# EAGLE library part HD44780 (library MF_Displays)
Library: MF_Displays Description: Device for HD44780 Complaint Displays. Manufacture part number (MFG#) can be added via Attributes.
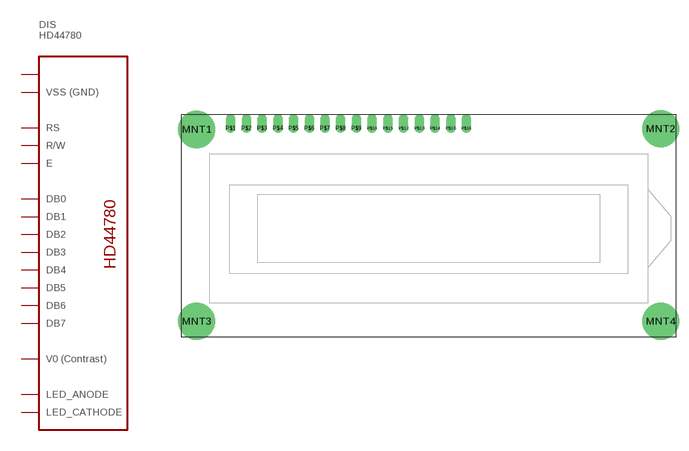
[diagram p0: symbol with the pads of 16026-16X2; footprint 16026-16X2]

Designator prefix DIS

## HD44780_16026_16X2_BYG_5V (HOUSEPART: NO; MPN: ERM1602-6; POPULATE: 0; URL: http://www.buydisplay.com/default/character-2x16-lcd-display-modules-hd44780-controller-black-on-yg; VALUE: ERM1602-6)  [16026-16X2]
P$1  VSS
P$2  VDD
P$3  CONTRAST
P$4  RS
P$5  R/W
P$6  E
P$7  DB0
P$8  DB1
P$9  DB2
P$10  DB3
P$11  DB4
P$12  DB5
P$13  DB6
P$14  DB7
P$15  LED_A
P$16  LED_C

## Footprint 16026-16X2 (pad centres in mm)
Description: Standard footprint for EastRising ERM1602-6 series display.
drill 3 pad 6: MNT1 2.5,-2.5; MNT2 77.5,-2.4; MNT3 2.5,-33.5; MNT4 77.5,-33.5
drill 1 offset: P$1 8,-2.3; P$2 10.54,-2.3; P$3 13.08,-2.3; P$4 15.62,-2.3; P$5 18.16,-2.3; P$6 20.7,-2.3; P$7 23.24,-2.3; P$8 25.78,-2.3; P$9 28.32,-2.3; P$10 30.86,-2.3; P$11 33.4,-2.3; P$12 35.94,-2.3; P$13 38.48,-2.3; P$14 41.02,-2.3; P$15 43.56,-2.3; P$16 46.1,-2.3